# Altium schematic symbol library AP7343.SchLib: 1 symbol
Pins are listed as number, name and electrical type; pins without a type are passive.

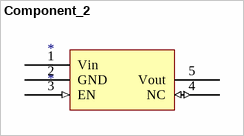
[diagram p0: symbol Component_2]

## Component_2
designator *
footprint SOT95P245X110-5N (SOT23, 5-Leads, Body 2.90x2.45mm, Pitch 0.95mm, IPC Medium Density)
pins: 1 Vin (power), 2 GND (power), 3 EN (in), 4 NC (io), 5 Vout (power)